# Altium footprint library BMS_Master.PcbLib: 20 footprints (part 1 of 2)
Each footprint in its own frame and in the unit in brackets; x right, y up, seen from the top. Pads: shape width x height; smd on the part's side, far side on the other; paste and mask are expansions set on the pad; w line width, h text height; cw(c..) or ccw(c..) is an arc to the next point about the centre after c.
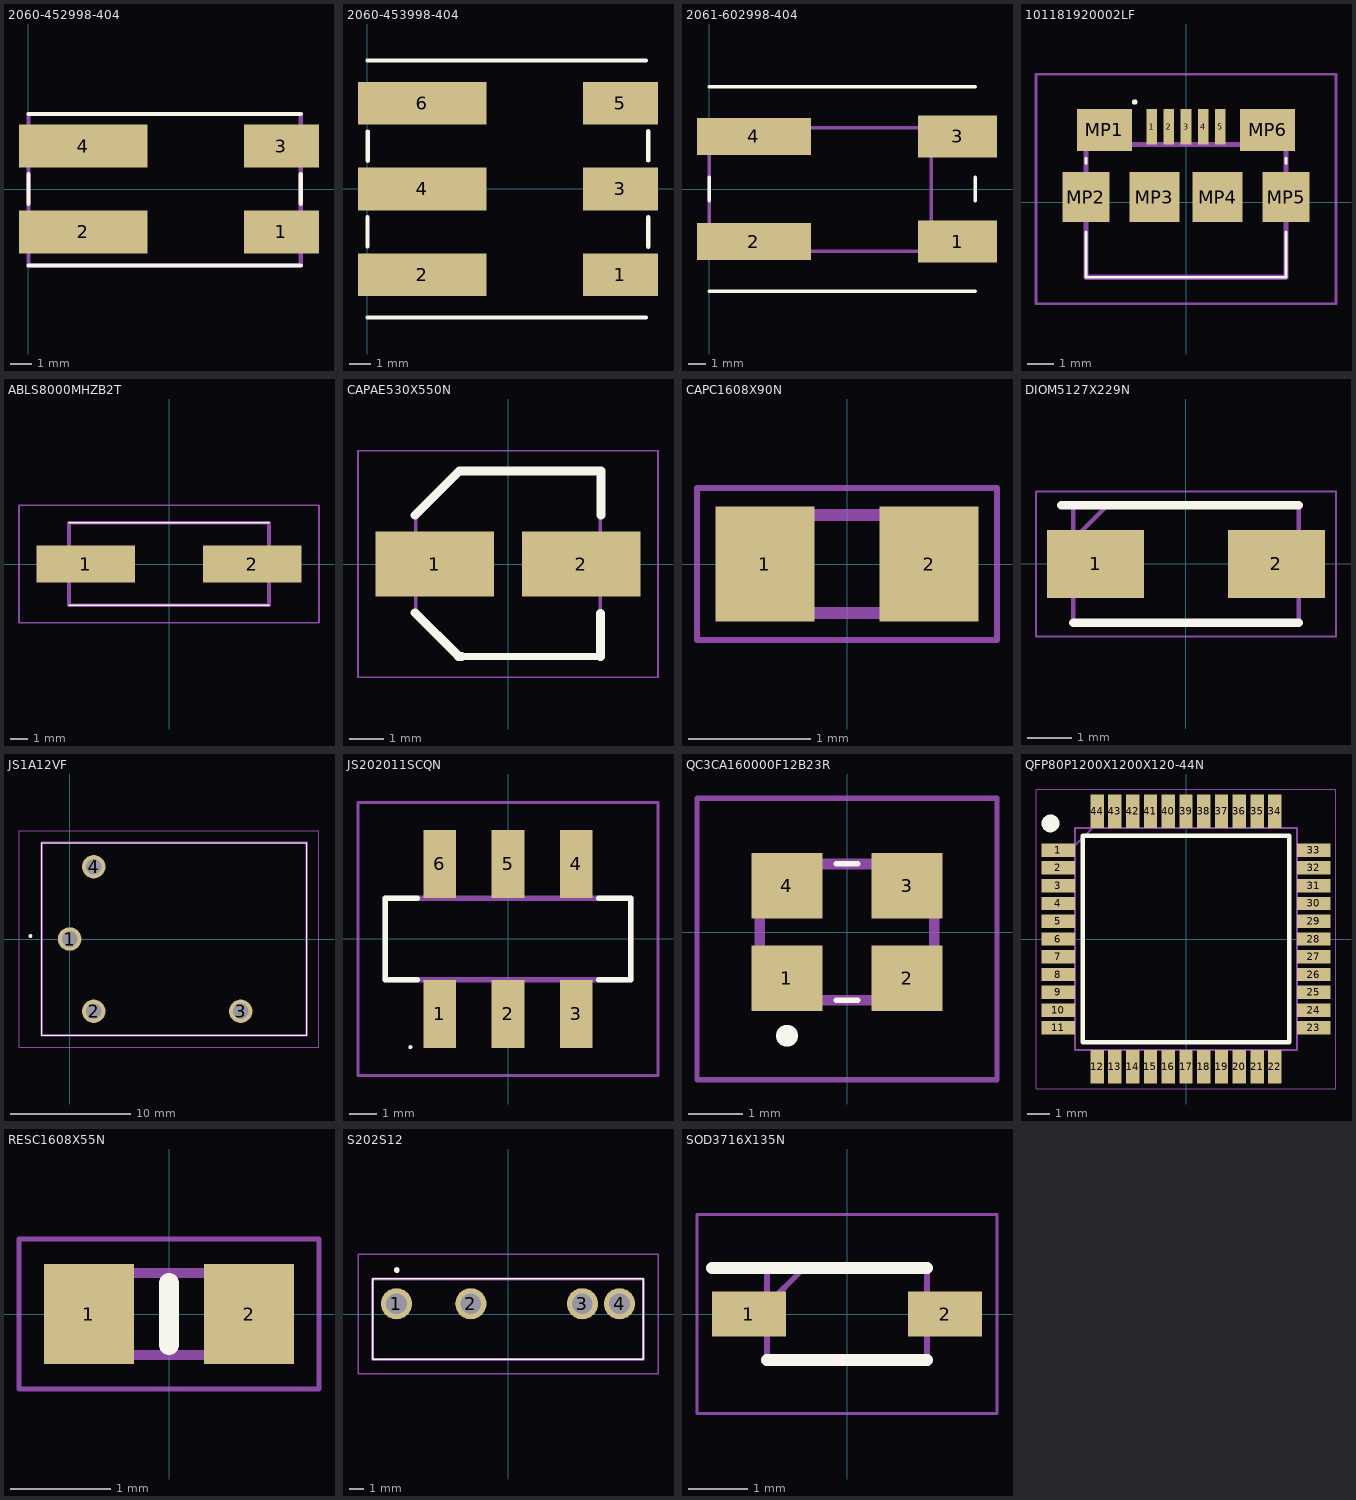
[diagram p0: the footprints below, top view; thin cyan lines are the x and y axes]

## 2060-452998-404 [mm]
pads (4):
  rect 3.5x2 smd: 1(11.808,-2) 3(11.808,2)
  rect 6x2 smd: 2(2.558,-2) 4(2.558,2)
Top Overlay:
  lines w0.2: 0,-3.567 12.7,-3.567 ; 0,-0.684 0,0.684 ; 0,3.503 12.7,3.503 ; 12.7,-0.684 12.7,0.684
Mechanical 13:
  lines w0.2: 0,-3.567 0,3.503 12.7,3.503 12.7,-3.567 0,-3.567
3D body "2060-452_998-404.stp": height 5.5, standoff 0, extent 0,-3.95 13.1,3.95

## 2060-453998-404 [mm]
pads (6):
  rect 3.5x2 smd: 1(11.808,-4) 3(11.808,0) 5(11.808,4)
  rect 6x2 smd: 2(2.558,-4) 4(2.558,0) 6(2.558,4)
Top Overlay:
  lines w0.2: 0,-6 13,-6 ; 0,-2.684 0,-1.316 ; 0,6 13,6 ; 0.018,1.314 0.018,2.682 ; 13.101,1.33 13.101,2.698 ; 13.11,-2.693 13.11,-1.325
3D body "2060-453_998-404.stp": height 5.5, standoff 0, extent 0,-5.95 13.1,5.95

## 2061-602998-404 [mm]
pads (4):
  rect 4.5x2.4 smd: 1(14.2,-3) 3(14.2,3)
  rect 6.5x2.1 smd: 2(2.558,-3) 4(2.558,3)
Top Overlay:
  lines w0.2: 0,-5.85 15.2,-5.85 ; 0,-0.684 0,0.684 ; 0,5.85 15.2,5.85 ; 15.2,-0.684 15.2,0.684
Mechanical 13:
  lines w0.2: 0,-3.567 0,3.503 12.7,3.503 12.7,-3.567 0,-3.567
3D body "2061-602_998-404.stp": height 6.75, standoff 0, extent 0,-5.85 15.8,5.85

## 101181920002LF [mm]
pads (11):
  rect 0.4x1.35 smd: 1(-1.3,2.862) 2(-0.65,2.862) 3(0,2.862) 4(0.65,2.862) 5(1.3,2.862)
  rect 2.1x1.6 smd: MP1(-3.1,2.737) MP6(3.1,2.737)
  rect 1.8x1.9 smd: MP2(-3.8,0.188) MP5(3.8,0.188)
  rect 1.9x1.9 smd: MP3(-1.2,0.188) MP4(1.2,0.188)
Top Overlay:
  lines w0.1: -3.8,-1.138 -3.8,-2.862 3.8,-2.862 3.8,-1.138 ; -3.8,1.462 -3.8,1.662 ; 3.8,1.462 3.8,1.662 ; -2,3.8 cw(c-1.95,3.8) -1.9,3.8 cw(c-1.95,3.8) -2,3.8
Mechanical 13:
  lines w0.2: -3.8,-2.862 -3.8,2.188 3.8,2.188 3.8,-2.862 -3.8,-2.862
Mechanical 15:
  lines w0.1: -5.7,-3.862 -5.7,4.85 5.7,4.85 5.7,-3.862 -5.7,-3.862
3D body "10118192-0002LF.stp": height 2.77, standoff 0, extent -3.95,-1.95 3.95,3.15

## ABLS8000MHZB2T [mm]
pads (2):
  rect 5.6x2.1 smd: 1(-4.75,0) 2(4.75,0)
Top Overlay:
  lines w0.1: -5.7,-2.35 5.7,-2.35 ; -5.7,2.35 5.7,2.35
Mechanical 13:
  lines w0.2: -5.7,-2.35 5.7,-2.35 5.7,2.35 -5.7,2.35 -5.7,-2.35
Mechanical 15:
  lines w0.1: -8.55,-3.35 8.55,-3.35 8.55,3.35 -8.55,3.35 -8.55,-3.35
3D body "ABLS-8.000MHZ-B2-T.stp": height 4.3, standoff 0, extent -7.34,-2.35 7.34,2.35

## CAPAE530X550N [mm]
pads (2):
  rect 3.4x1.85 smd: 1(-2.1,0) 2(2.1,0)
Top Overlay:
  lines w0.2: -1.325,-2.65 2.65,-2.65
  lines w0.254: -2.667,-1.397 -1.414,-2.65 -1.325,-2.65 ; -2.667,1.397 -1.397,2.667 2.667,2.667 2.667,1.397 ; 2.65,-2.65 2.65,-1.414
Mechanical 13:
  lines w0.1: -2.65,-1.325 -2.65,1.325 -1.325,2.65 2.65,2.65 2.65,-2.65 -1.325,-2.65 -2.65,-1.325
Mechanical 15:
  lines w0.05: -4.3,-3.25 4.3,-3.25 4.3,3.25 -4.3,3.25 -4.3,-3.25
3D body "NACE470M6.3V5X5.5TR13F.stp": height 5.5, standoff 0, extent -3.1,-2.75 3.1,2.75

## CAPC1608X90N [mm]
pads (2):
  rect 0.81x0.94 smd: 1(-0.67,0) 2(0.67,0)
Mechanical 13:
  lines w0.1: -0.8,-0.4 0.8,-0.4 0.8,0.4 -0.8,0.4 -0.8,-0.4
Mechanical 15:
  lines w0.05: -1.225,-0.62 1.225,-0.62 1.225,0.62 -1.225,0.62 -1.225,-0.62
3D body "EMK107B7105KA-T.stp": height 0.9, standoff 0, extent -0.8,-0.4 0.8,0.4

## DIOM5127X229N [mm]
pads (2):
  rect 2.2x1.55 smd: 1(-2.05,0) 2(2.05,0)
Top Overlay:
  lines w0.2: -2.825,1.332 2.552,1.332 ; -2.552,-1.332 2.552,-1.332
Mechanical 13:
  lines w0.1: -2.552,0.558 -1.778,1.332 ; -2.552,-1.332 -2.552,1.332 2.552,1.332 2.552,-1.332 -2.552,-1.332
Mechanical 15:
  lines w0.05: -3.4,-1.645 -3.4,1.645 3.4,1.645 3.4,-1.645 -3.4,-1.645
3D body "ES1D-E3_61T.stp": height 2.29, standoff 0, extent -2.552,-1.332 2.552,1.332

## JS1A12VF [mm]
pads (4):
  round 1.95 hole 1.3: 1(0,0) 2(2,-6) 3(14.2,-6) 4(2,6)
Top Overlay:
  lines w0.1: -2.3,-8 19.7,-8 19.7,8 -2.3,8 -2.3,-8
  lines w0.2: -3.3,0.25 cw(c-3.25,0.25) -3.2,0.25 ; -3.3,0.25 ccw(c-3.25,0.25) -3.2,0.25 ; -3.3,0.25 cw(c-3.25,0.25) -3.2,0.25
Mechanical 13:
  lines w0.2: -2.3,-8 19.7,-8 19.7,8 -2.3,8 -2.3,-8
Mechanical 15:
  lines w0.1: -4.2,-9 20.7,-9 20.7,9 -4.2,9 -4.2,-9
3D body "JS1A-12V-F.stp": height 16.5, standoff -5, extent -2.3,-8 19.7,8

## JS202011SCQN [mm]
pads (6):
  rect 1.2x2.5 smd: 1(-2.5,-2.75) 2(0,-2.75) 3(2.5,-2.75) 4(2.5,2.75) 5(0,2.75) 6(-2.5,2.75)
Top Overlay:
  lines w0.072: -3.614,-3.968 cw(c-3.578,-3.968) -3.542,-3.968 cw(c-3.578,-3.968) -3.614,-3.968
  lines w0.2: -3.323,-1.5 -4.5,-1.5 -4.5,1.5 -3.323,1.5 ; 3.323,-1.5 4.5,-1.5 4.5,1.5 3.323,1.5
Mechanical 13:
  lines w0.2: -4.5,-1.5 -4.5,1.5 4.5,1.5 4.5,-1.5 -4.5,-1.5
Mechanical 15:
  lines w0.1: -5.5,-5.004 -5.5,5 5.5,5 5.5,-5.004 -5.5,-5.004
3D body "JS202011SCQN.stp": height 5.65, standoff -0.2, extent -4.5,-3.5 4.5,3.5

## PCBComponent_1 [mm]

## QC3CA160000F12B23R [mm]
pads (4):
  rect 1.3x1.2 smd: 1(-1.1,-0.85) 2(1.1,-0.85) 3(1.1,0.85) 4(-1.1,0.85)
Top Overlay:
  lines w0.1: -0.2,-1.25 0.2,-1.25 ; -0.2,1.25 0.2,1.25
  lines w0.2: -1.2,-1.9 ccw(c-1.1,-1.9) -1,-1.9 ccw(c-1.1,-1.9) -1.2,-1.9
Mechanical 13:
  lines w0.2: -1.6,-1.25 -1.6,1.25 1.6,1.25 1.6,-1.25 -1.6,-1.25
Mechanical 15:
  lines w0.1: -2.75,-2.703 -2.75,2.45 2.75,2.45 2.75,-2.703 -2.75,-2.703
3D body "QC3CA16.0000F12B23R.stp": height 1.2, standoff 0, extent -1.63,-1.33 1.63,1.33

## QFP80P1200X1200X120-44N [mm]
pads (44):
  rect 1.5x0.6 smd: 1(-5.75,4) 2(-5.75,3.2) 3(-5.75,2.4) 4(-5.75,1.6) 5(-5.75,0.8) 6(-5.75,0) 7(-5.75,-0.8) 8(-5.75,-1.6) 9(-5.75,-2.4) 10(-5.75,-3.2) 11(-5.75,-4) 23(5.75,-4) 24(5.75,-3.2) 25(5.75,-2.4) 26(5.75,-1.6) 27(5.75,-0.8) 28(5.75,0) 29(5.75,0.8) 30(5.75,1.6) 31(5.75,2.4) 32(5.75,3.2) 33(5.75,4)
  rect 0.6x1.5 smd: 12(-4,-5.75) 13(-3.2,-5.75) 14(-2.4,-5.75) 15(-1.6,-5.75) 16(-0.8,-5.75) 17(0,-5.75) 18(0.8,-5.75) 19(1.6,-5.75) 20(2.4,-5.75) 21(3.2,-5.75) 22(4,-5.75) 34(4,5.75) 35(3.2,5.75) 36(2.4,5.75) 37(1.6,5.75) 38(0.8,5.75) 39(0,5.75) 40(-0.8,5.75) 41(-1.6,5.75) 42(-2.4,5.75) 43(-3.2,5.75) 44(-4,5.75)
Top Overlay:
  circle w0.4: c-6.1,5.2 r0.2
  lines w0.2: -4.65,-4.65 -4.65,4.65 4.65,4.65 4.65,-4.65 -4.65,-4.65
Mechanical 13:
  lines w0.1: -5,4.2 -4.2,5 ; -5,-5 -5,5 5,5 5,-5 -5,-5
Mechanical 15:
  lines w0.05: -6.75,-6.75 -6.75,6.75 6.75,6.75 6.75,-6.75 -6.75,-6.75
3D body "ATMEGA32U4RC-AU.stp": height 1.2, standoff 0, extent -6,-6 6,6

## RESC1608X55N [mm]
pads (2):
  rect 0.9x1 smd: 1(-0.8,0) 2(0.8,0)
Top Overlay:
  lines w0.2: 0,-0.312 0,0.312
Mechanical 13:
  lines w0.1: -0.8,-0.412 -0.8,0.412 0.8,0.412 0.8,-0.412 -0.8,-0.412
Mechanical 15:
  lines w0.05: -1.5,-0.75 -1.5,0.75 1.5,0.75 1.5,-0.75 -1.5,-0.75
3D body "CRGH0603F180R.stp": height 0.55, standoff 0, extent -0.8,-0.413 0.8,0.413

## S202S12 [mm]
pads (4):
  round 2.13 hole 1.42: 1(-7.62,0.7) 2(-2.54,0.7) 3(5.08,0.7) 4(7.62,0.7)
Top Overlay:
  lines w0.1: -9.25,-3.1 -9.25,2.4 9.25,2.4 9.25,-3.1 -9.25,-3.1
  lines w0.2: -7.7,3 ccw(c-7.6,3) -7.5,3 ccw(c-7.6,3) -7.7,3
Mechanical 13:
  lines w0.2: -9.25,-3.1 -9.25,2.4 9.25,2.4 9.25,-3.1 -9.25,-3.1
Mechanical 15:
  lines w0.1: -10.25,-4.1 -10.25,4.1 10.25,4.1 10.25,-4.1 -10.25,-4.1
3D body "S202S02F.stp": height 5.1, standoff -5, extent -9.25,-3.1 9.25,2.4

## SOD3716X135N [mm]
pads (2):
  rect 1.25x0.75 smd: 1(-1.65,0) 2(1.65,0)
Top Overlay:
  lines w0.2: -2.275,0.775 1.35,0.775 ; -1.35,-0.775 1.35,-0.775
Mechanical 13:
  lines w0.1: -1.35,0.15 -0.725,0.775 ; -1.35,-0.775 -1.35,0.775 1.35,0.775 1.35,-0.775 -1.35,-0.775
Mechanical 15:
  lines w0.05: -2.525,-1.675 -2.525,1.675 2.525,1.675 2.525,-1.675 -2.525,-1.675
3D body "BAT43W-E3-08.stp": height 1.35, standoff 0, extent -1.85,-0.775 1.85,0.775